# Altium footprint library Seven Segment.PCBLIB: 11 footprints
Each footprint in its own frame and in the unit in brackets; x right, y up, seen from the top. Pads: shape width x height; smd on the part's side, far side on the other; paste and mask are expansions set on the pad; w line width, h text height; cw(c..) or ccw(c..) is an arc to the next point about the centre after c.
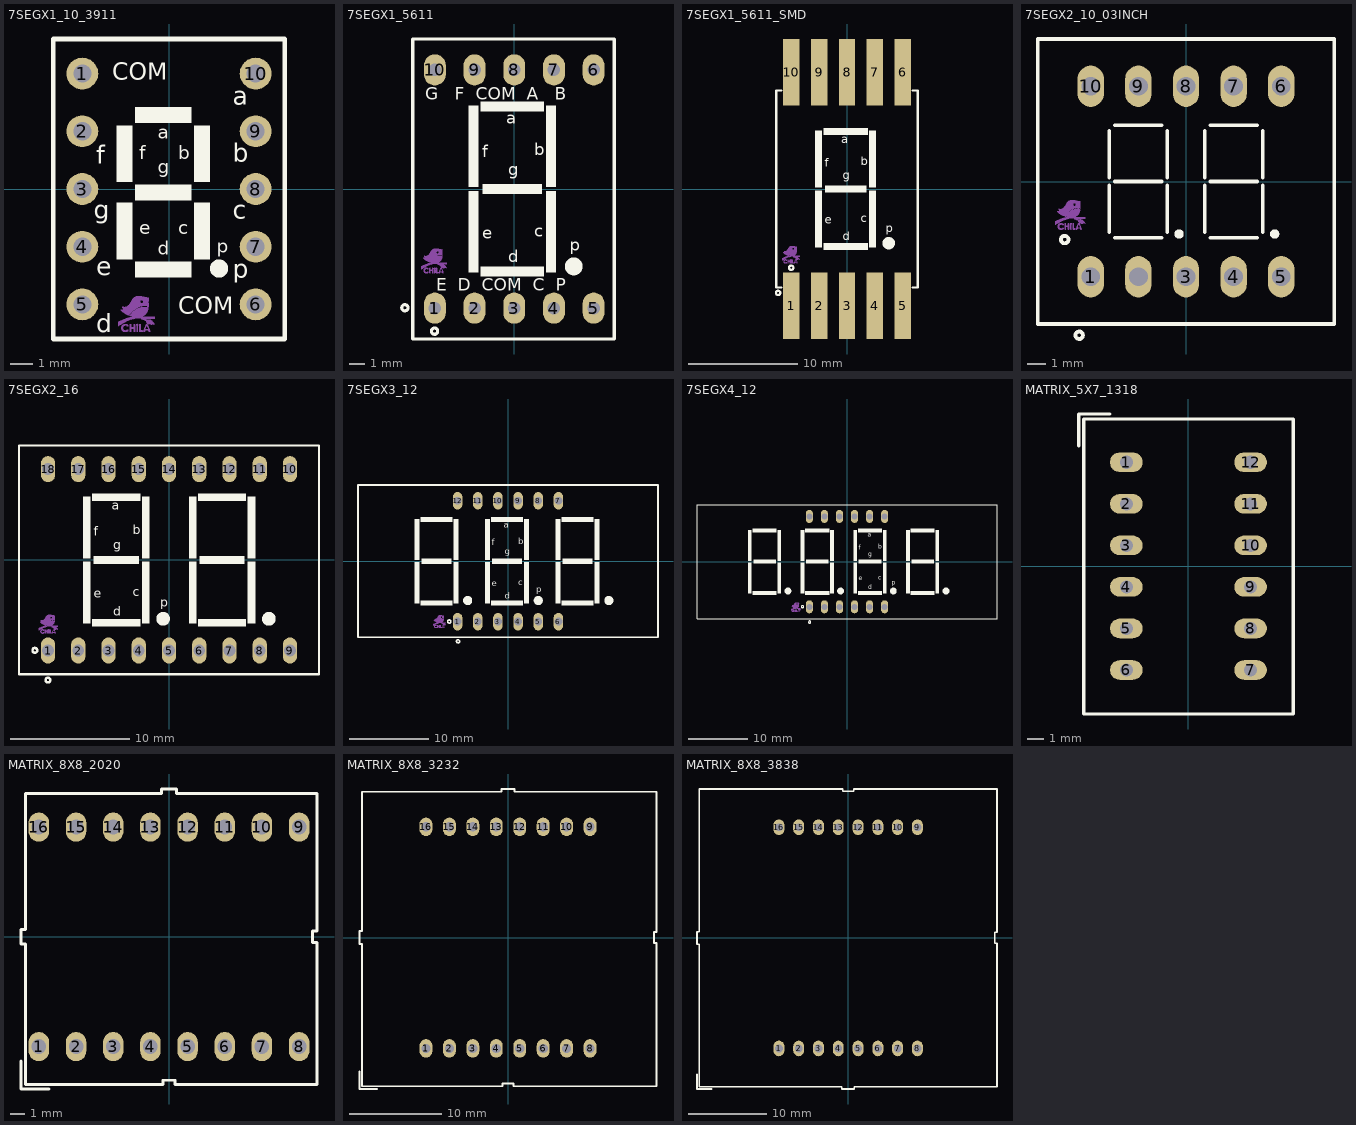
[diagram p0: the footprints below, top view; thin cyan lines are the x and y axes]

## 7SEGX1_10_3911 [mm] "7SEG single 10pin Pitch: 2.54mm  3911 0.39\" 10X13mm"
pads (10):
  round 1.4 / inner round 1.4 / far side oval 2x1.4 hole 0.8: 1(-3.81,5.08) 2(-3.81,2.54) 3(-3.81,0) 4(-3.81,-2.54) 5(-3.81,-5.08) 6(3.81,-5.08) 7(3.81,-2.54) 8(3.81,0) 9(3.81,2.54) 10(3.81,5.08)
TopOverlay:
  circle w0.4: c2.2,-3.5 r0.2
  rectangle: -1.5,-0.5 1,0.2
  region: -1.6,0.3 -1.6,2.8 -2.3,2.8 -2.3,0.3
  rectangle: -1.5,2.9 1,3.6
  region: -2.3,-0.6 -2.3,-3.1 -1.6,-3.1 -1.6,-0.6
  region: 1.1,-0.6 1.1,-3.1 1.8,-3.1 1.8,-0.6
  region: 1.8,0.3 1.8,2.8 1.1,2.8 1.1,0.3
  rectangle: -1.5,-3.9 1,-3.2
  lines w0.2: -5.1,-6.6 -5.1,6.6 5.1,6.6 5.1,-6.6 -5.1,-6.6
  text "p" at 2.8,-3.9 h0.8
  text "a" at 2.8,3.7 h0.8
  text "d" at -3.2,-6.3 h0.8
  text "COM" at 0.4,-5.5 h0.76
  text "COM" at -2.5,4.8 h0.76
  text "e" at -3.2,-3.8 h0.8
  text "f" at -3.2,1.1 h0.8
  text "b" at 2.8,1.2 h0.8
  text "g" at -3.3,-1.3 h0.8
  text "c" at 2.8,-1.3 h0.8
  text "a" at -0.5,2.2 h0.6
  text "f" at -1.3,1.3 h0.6
  text "d" at -0.5,-2.9 h0.6
  text "c" at 0.4,-2 h0.6
  text "e" at -1.3,-2 h0.6
  text "b" at 0.4,1.3 h0.6
  text "p" at 2.1,-2.8 h0.6
  text "g" at -0.5,0.689 h0.6
Mechanical16:
  drawing of 8 lines, arcs and shapes, not listed
3D body "User Library-King Bright SA39-11.step": height 7, standoff -4, extent -5,-6.5 5,6.5

## 7SEGX1_5611 [mm] "7SEG single 10pin Pitch: 2.54mm  19X12.5mm"
pads (10):
  oval 1.4x2 hole 0.8: 1(-5.08,-7.62) 2(-2.54,-7.62) 3(0,-7.62) 4(2.54,-7.62) 5(5.08,-7.62) 6(5.08,7.62) 7(2.54,7.62) 8(0,7.62) 9(-2.54,7.62) 10(-5.08,7.62)
TopOverlay:
  circle w0.2: c-5.1,-9.1 r0.2
  circle w0.2: c-7,-7.6 r0.2
  circle w0.635: c3.81,-4.953 r0.254
  rectangle: -2.921,-5.334 -2.286,-0.127
  rectangle: -2.921,0.127 -2.286,5.334
  rectangle: 2.032,0.127 2.667,5.334
  rectangle: 2.032,-5.334 2.667,-0.127
  rectangle: -2.159,4.953 1.905,5.588
  rectangle: -2.159,-5.588 1.905,-4.953
  rectangle: -2.032,-0.33 1.778,0.33
  lines w0.2: -6.5,-9.6 -6.5,9.6 6.4,9.6 6.4,-9.6 -6.5,-9.6
  text "E  D  COM  C  P" at -5,-6.5 h0.8
  text "G   F  COM  A   B" at -5.7,5.7 h0.8
  text "a" at -0.508,4.191 h0.76
  text "f" at -2.032,2.032 h0.76
  text "d" at -0.381,-4.699 h0.76
  text "c" at 1.27,-3.048 h0.76
  text "e" at -2.032,-3.175 h0.76
  text "b" at 1.27,2.159 h0.76
  text "p" at 3.556,-3.937 h0.76
  text "g" at -0.381,0.889 h0.76
Mechanical16:
  drawing of 8 lines, arcs and shapes, not listed
3D body "User Library-KEM-5611.STEP": height 10, standoff -4.3, extent -6.3,-9.5 6.3,9.5

## 7SEGX1_5611_SMD [mil]
pads (10):
  rect 59.06x240 smd: 1(-200,-420) 2(-100,-420) 3(0,-420) 4(100,-420) 5(200,-420) 6(200,420) 7(100,420) 8(0,420) 9(-100,420) 10(-200,420)
TopOverlay:
  circle w7.87: c-200.79,-283.46 r7.87
  circle w7.87: c-248.03,-374.02 r7.87
  circle w25: c150,-195 r10
  rectangle: -80,-13 70,13
  rectangle: -85,-220 75,-195
  rectangle: -85,195 75,220
  rectangle: 80,-210 105,-5
  rectangle: 80,5 105,210
  rectangle: -115,5 -90,210
  rectangle: -115,-210 -90,-5
  lines w7.87: -236.22,-355 -255,-355 -255,355 -236.22,355 ; 236.22,-355 255,-355 255,355 236.22,355
  text "g" at -15,35 h30
  text "p" at 140,-155 h30
  text "b" at 50,85 h30
  text "e" at -80,-125 h30
  text "c" at 50,-120 h30
  text "d" at -15,-185 h30
  text "f" at -80,80 h30
  text "a" at -20,165 h30
Mechanical16:
  drawing of 8 lines, arcs and shapes, not listed
3D body "User Library-KEM-5611.STEP": height 393.7, standoff -169.29, extent -248.02,-374.01 248.04,374.02

## 7SEGX2_10_03INCH [mm] "7SEG 2DIGIT 10pin Pitch: 2.54mm  0.3\", 15.5X15mm"
height 8
pads (10):
  oval 1.4x2.2 hole 1: 1(-5.08,-5.08) 3(0,-5.08) 4(2.54,-5.08) 5(5.08,-5.08) 6(5.08,5.08) 7(2.54,5.08) 8(0,5.08) 9(-2.54,5.08) 10(-5.08,5.08) ""(-2.54,-5.08)
TopOverlay:
  circle w0.25: c4.73,-2.8 r0.125
  circle w0.25: c-0.37,-2.8 r0.125
  circle w0.2: c-5.7,-8.2 r0.2
  circle w0.2: c-6.47,-3.1 r0.2
  lines w0.2: -4.1,-2.7 -4.1,-0.2 ; -4.1,0.2 -4.1,2.7 ; -3.8,-3 -1.3,-3 ; -3.8,0 -1.3,0 ; -3.8,3 -1.3,3 ; -1,-2.7 -1,-0.2 ; -1,0.2 -1,2.7 ; 1,-2.7 1,-0.2 ; 1,0.2 1,2.7 ; 1.3,-3 3.8,-3 ; 1.3,0 3.8,0 ; 1.3,3 3.8,3 ; 4.1,-2.7 4.1,-0.2 ; 4.1,0.2 4.1,2.7 ; -7.9,-7.6 7.9,-7.6 7.9,7.6 -7.9,7.6 -7.9,-7.6
Mechanical16:
  drawing of 8 lines, arcs and shapes, not listed
3D body "DX03-11.STEP": height 7.3, standoff -3.9, extent -7.75,-7.5 7.75,7.5

## 7SEGX2_16 [mm] "7SEG 2DIGIT 16pin Pitch: 2.54mm    5621 0.56\", 19X25mm"
height 8
pads (18):
  oval 1.2x2.2 hole 1: 1(-10.16,-7.62) 2(-7.62,-7.62) 3(-5.08,-7.62) 4(-2.54,-7.62) 5(0,-7.62) 6(2.54,-7.62) 7(5.08,-7.62) 8(7.62,-7.62) 9(10.16,-7.62) 10(10.16,7.62) 11(7.62,7.62) 12(5.08,7.62) 13(2.54,7.62) 14(0,7.62) 15(-2.54,7.62) 16(-5.08,7.62) 17(-7.62,7.62) 18(-10.16,7.62)
TopOverlay:
  circle w0.2: c-10.17,-10.1 r0.2
  circle w0.2: c-11.27,-7.6 r0.2
  circle w0.635: c8.39,-4.953 r0.254
  circle w0.635: c-0.5,-4.953 r0.254
  rectangle: 1.659,-5.334 2.294,-0.127
  rectangle: 1.659,0.127 2.294,5.334
  rectangle: 6.612,0.127 7.247,5.334
  rectangle: 6.612,-5.334 7.247,-0.127
  rectangle: 2.421,4.953 6.485,5.588
  rectangle: 2.421,-5.588 6.485,-4.953
  rectangle: 2.548,-0.33 6.358,0.33
  rectangle: -6.342,-0.33 -2.532,0.33
  rectangle: -6.469,-5.588 -2.405,-4.953
  rectangle: -6.469,4.953 -2.405,5.588
  rectangle: -2.278,-5.334 -1.643,-0.127
  rectangle: -2.278,0.127 -1.643,5.334
  rectangle: -7.231,0.127 -6.596,5.334
  rectangle: -7.231,-5.334 -6.596,-0.127
  lines w0.2: -12.6,-9.6 12.6,-9.6 12.6,9.6 -12.6,9.6 -12.6,-9.6
  text "g" at -4.691,0.889 h0.76
  text "p" at -0.754,-3.937 h0.76
  text "b" at -3.04,2.159 h0.76
  text "e" at -6.342,-3.175 h0.76
  text "c" at -3.04,-3.048 h0.76
  text "d" at -4.691,-4.699 h0.76
  text "f" at -6.342,2.032 h0.76
  text "a" at -4.818,4.191 h0.76
Mechanical16:
  drawing of 8 lines, arcs and shapes, not listed
3D body "User Library-King Bright DX56_2DIG.step": height 8.2, standoff -3.8, extent -12.5,-9.525 12.5,9.525

## 7SEGX3_12 [mm] "7SEG 3DIGIT 12pin Pitch: 2.54mm  5641 0.56\", 19X37.5mm"
height 7.62
pads (12):
  oval 1.2x2.2 hole 1: 1(-6.35,-7.62) 2(-3.81,-7.62) 3(-1.27,-7.62) 4(1.27,-7.62) 5(3.81,-7.62) 6(6.35,-7.62) 7(6.35,7.62) 8(3.81,7.62) 9(1.27,7.62) 10(-1.27,7.62) 11(-3.81,7.62) 12(-6.35,7.62)
TopOverlay:
  circle w0.2: c-6.3,-10.1 r0.2
  circle w0.2: c-7.4,-7.6 r0.2
  circle w0.635: c12.7,-4.953 r0.254
  circle w0.635: c-5.08,-4.953 r0.254
  circle w0.635: c3.81,-4.953 r0.254
  rectangle: 5.969,-5.334 6.604,-0.127
  rectangle: 5.969,0.127 6.604,5.334
  rectangle: 10.922,0.127 11.557,5.334
  rectangle: 10.922,-5.334 11.557,-0.127
  rectangle: 6.731,4.953 10.795,5.588
  rectangle: 6.731,-5.588 10.795,-4.953
  rectangle: 6.858,-0.33 10.668,0.33
  rectangle: -11.811,-5.334 -11.176,-0.127
  rectangle: -11.811,0.127 -11.176,5.334
  rectangle: -6.858,0.127 -6.223,5.334
  rectangle: -6.858,-5.334 -6.223,-0.127
  rectangle: -11.049,4.953 -6.985,5.588
  rectangle: -11.049,-5.588 -6.985,-4.953
  rectangle: -2.032,-0.33 1.778,0.33
  rectangle: -2.159,-5.588 1.905,-4.953
  rectangle: -2.159,4.953 1.905,5.588
  rectangle: 2.032,-5.334 2.667,-0.127
  rectangle: 2.032,0.127 2.667,5.334
  rectangle: -2.921,0.127 -2.286,5.334
  rectangle: -2.921,-5.334 -2.286,-0.127
  rectangle: -10.922,-0.33 -7.112,0.33
  lines w0.2: -18.9,-9.6 18.9,-9.6 18.9,9.6 -18.9,9.6 -18.9,-9.6
  text "g" at -0.381,0.889 h0.76
  text "p" at 3.556,-3.937 h0.76
  text "b" at 1.27,2.159 h0.76
  text "e" at -2.032,-3.175 h0.76
  text "c" at 1.27,-3.048 h0.76
  text "d" at -0.381,-4.699 h0.76
  text "f" at -2.032,2.032 h0.76
  text "a" at -0.508,4.191 h0.76
Mechanical16:
  drawing of 8 lines, arcs and shapes, not listed
3D body "end-el-san Co Ltd-King Bright BX56-12A.step": height 8.2, standoff -3.9, extent -18.8,-9.5 18.8,9.5

## 7SEGX4_12 [mm] "7SEG 4DIGIT 12pin Pitch: 2.54mm    5641 0.56\", 19X50.3mm"
height 7.62
pads (12):
  oval 1.2x2.2 hole 1: 1(-6.35,-7.62) 2(-3.81,-7.62) 3(-1.27,-7.62) 4(1.27,-7.62) 5(3.81,-7.62) 6(6.35,-7.62) 7(6.35,7.62) 8(3.81,7.62) 9(1.27,7.62) 10(-1.27,7.62) 11(-3.81,7.62) 12(-6.35,7.62)
TopOverlay:
  circle w0.635: c-9.97,-4.953 r0.254
  circle w0.635: c16.7,-4.953 r0.254
  circle w0.635: c-1.08,-4.953 r0.254
  circle w0.635: c7.81,-4.953 r0.254
  circle w0.2: c-7.5,-7.6 r0.2
  circle w0.2: c-6.3,-10.2 r0.2
  rectangle: -15.812,-0.33 -12.002,0.33
  rectangle: -15.939,-5.588 -11.875,-4.953
  rectangle: -15.939,4.953 -11.875,5.588
  rectangle: -11.748,-5.334 -11.113,-0.127
  rectangle: -11.748,0.127 -11.113,5.334
  rectangle: -16.701,0.127 -16.066,5.334
  rectangle: -16.701,-5.334 -16.066,-0.127
  rectangle: 9.969,-5.334 10.604,-0.127
  rectangle: 9.969,0.127 10.604,5.334
  rectangle: 14.922,0.127 15.557,5.334
  rectangle: 14.922,-5.334 15.557,-0.127
  rectangle: 10.731,4.953 14.795,5.588
  rectangle: 10.731,-5.588 14.795,-4.953
  rectangle: 10.858,-0.33 14.668,0.33
  rectangle: -7.811,-5.334 -7.176,-0.127
  rectangle: -7.811,0.127 -7.176,5.334
  rectangle: -2.858,0.127 -2.223,5.334
  rectangle: -2.858,-5.334 -2.223,-0.127
  rectangle: -7.049,4.953 -2.985,5.588
  rectangle: -7.049,-5.588 -2.985,-4.953
  rectangle: 1.968,-0.33 5.778,0.33
  rectangle: 1.841,-5.588 5.905,-4.953
  rectangle: 1.841,4.953 5.905,5.588
  rectangle: 6.032,-5.334 6.667,-0.127
  rectangle: 6.032,0.127 6.667,5.334
  rectangle: 1.079,0.127 1.714,5.334
  rectangle: 1.079,-5.334 1.714,-0.127
  rectangle: -6.922,-0.33 -3.112,0.33
  lines w0.2: -25.3,-9.6 25.3,-9.6 25.3,9.6 -25.3,9.6 -25.3,-9.6
  text "g" at 3.619,0.889 h0.76
  text "p" at 7.556,-3.937 h0.76
  text "b" at 5.27,2.159 h0.76
  text "e" at 1.968,-3.175 h0.76
  text "c" at 5.27,-3.048 h0.76
  text "d" at 3.619,-4.699 h0.76
  text "f" at 1.968,2.032 h0.76
  text "a" at 3.492,4.191 h0.76
Mechanical16:
  drawing of 8 lines, arcs and shapes, not listed
3D body "User Library-C-564 (7 segment 4 digit LED display).step": height 8, standoff -6.2, extent -25.2,-9.5 25.2,9.5

## MATRIX_5X7_1318 [mm] "LED Dot Matrix 5x7 12.7mmx17.8mm"
height 15.7
pads (12):
  oval 2x1.2 hole 0.8: 1(-3.8,6.35) 2(-3.8,3.81) 3(-3.8,1.27) 4(-3.8,-1.27) 5(-3.8,-3.81) 6(-3.8,-6.35) 7(3.8,-6.35) 8(3.8,-3.81) 9(3.8,-1.27) 10(3.8,1.27) 11(3.8,3.81) 12(3.8,6.35)
TopOverlay:
  lines w0.2: -6.7,7.36 -6.7,9.3 -4.8,9.3 ; -6.4,-9.04 6.4,-9.04 6.4,9 -6.4,9 -6.4,-9.04
3D body "User Library-18mm DOTMATRIX DISPLAY.step": height 6.4, standoff -5.5, extent -6.35,-8.89 6.35,8.89

## MATRIX_8X8_2020 [mm] "LED Dot Matrix 8x8 20mmx20mm"
height 15.7
pads (16):
  oval 1.4x2 hole 1: 1(-8.89,-7.5) 2(-6.35,-7.5) 3(-3.81,-7.5) 4(-1.27,-7.5) 5(1.27,-7.5) 6(3.81,-7.5) 7(6.35,-7.5) 8(8.89,-7.5) 9(8.89,7.5) 10(6.35,7.5) 11(3.81,7.5) 12(1.27,7.5) 13(-1.27,7.5) 14(-3.81,7.5) 15(-6.35,7.5) 16(-8.89,7.5)
TopOverlay:
  lines w0.2: -10.1,-8.5 -10.1,-10.4 -8.2,-10.4 ; -10.1,-0.5 -10.1,0.5 -9.8,0.5 -9.8,9.8 -0.5,9.8 -0.5,10.1 0.5,10.1 0.5,9.8 10.1,9.8 10.1,0.4 9.8,0.4 9.8,-0.4 10.1,-0.4 10.1,-10.1 0.4,-10.1 0.4,-9.8 -0.4,-9.8 -0.4,-10.1 -9.8,-10.1 -9.8,-0.5 -10.1,-0.5
3D body: height 5.46, standoff 2, extent -10,-10 10,10

## MATRIX_8X8_3232 [mm] "LED Dot Matrix 8x8 32mmx32mm"
height 15.7
pads (16):
  oval 1.4x2 hole 1: 1(-8.89,-12) 2(-6.35,-12) 3(-3.81,-12) 4(-1.27,-12) 5(1.27,-12) 6(3.81,-12) 7(6.35,-12) 8(8.89,-12) 9(8.89,12) 10(6.35,12) 11(3.81,12) 12(1.27,12) 13(-1.27,12) 14(-3.81,12) 15(-6.35,12) 16(-8.89,12)
TopOverlay:
  lines w0.2: -16.1,-14.5 -16.1,-16.4 -14.2,-16.4 ; -16.1,-0.7 -15.8,-0.7 -15.8,-16.1 -0.6,-16.1 -0.6,-15.8 0.6,-15.8 0.6,-16.1 16.1,-16.1 16.1,-0.6 15.8,-0.6 15.8,0.6 16.1,0.6 16.1,15.8 0.7,15.8 0.7,16.1 -0.7,16.1 -0.7,15.8 -15.8,15.8 -15.8,0.7 -16.1,0.7 -16.1,-0.7
3D body "User Library-Lite-On LTP-12088M.step": height 8, standoff -3.25, extent -15.964,-16 15.964,15.928

## MATRIX_8X8_3838 [mm] "LED Dot Matrix 8x8 38mmx38mm"
height 15.7
pads (16):
  oval 1.4x2 hole 1: 1(-8.89,-14.2) 2(-6.35,-14.2) 3(-3.81,-14.2) 4(-1.27,-14.2) 5(1.27,-14.2) 6(3.81,-14.2) 7(6.35,-14.2) 8(8.89,-14.2) 9(8.89,14.2) 10(6.35,14.2) 11(3.81,14.2) 12(1.27,14.2) 13(-1.27,14.2) 14(-3.81,14.2) 15(-6.35,14.2) 16(-8.89,14.2)
TopOverlay:
  lines w0.2: -19.4,-17.5 -19.4,-19.4 -17.5,-19.4 ; -19.4,-0.8 -19.1,-0.8 -19.1,-19.1 -0.8,-19.1 -0.8,-19.4 0.8,-19.4 0.8,-19.1 19.1,-19.1 19.1,-0.7 18.8,-0.7 18.8,0.7 19.1,0.7 19.1,19.1 0.7,19.1 0.7,18.8 -0.7,18.8 -0.7,19.1 -19.1,19.1 -19.1,0.8 -19.4,0.8 -19.4,-0.8
3D body "User Library-38x38_8x8_LED.step": height 10.4, standoff -4, extent -19.3,-19.3 19,19